# Altium footprint library Inductors.PcbLib: 45 footprints (part 1 of 3)
Each footprint in its own frame and in the unit in brackets; x right, y up, seen from the top. Pads: shape width x height; smd on the part's side, far side on the other; paste and mask are expansions set on the pad; w line width, h text height; cw(c..) or ccw(c..) is an arc to the next point about the centre after c.
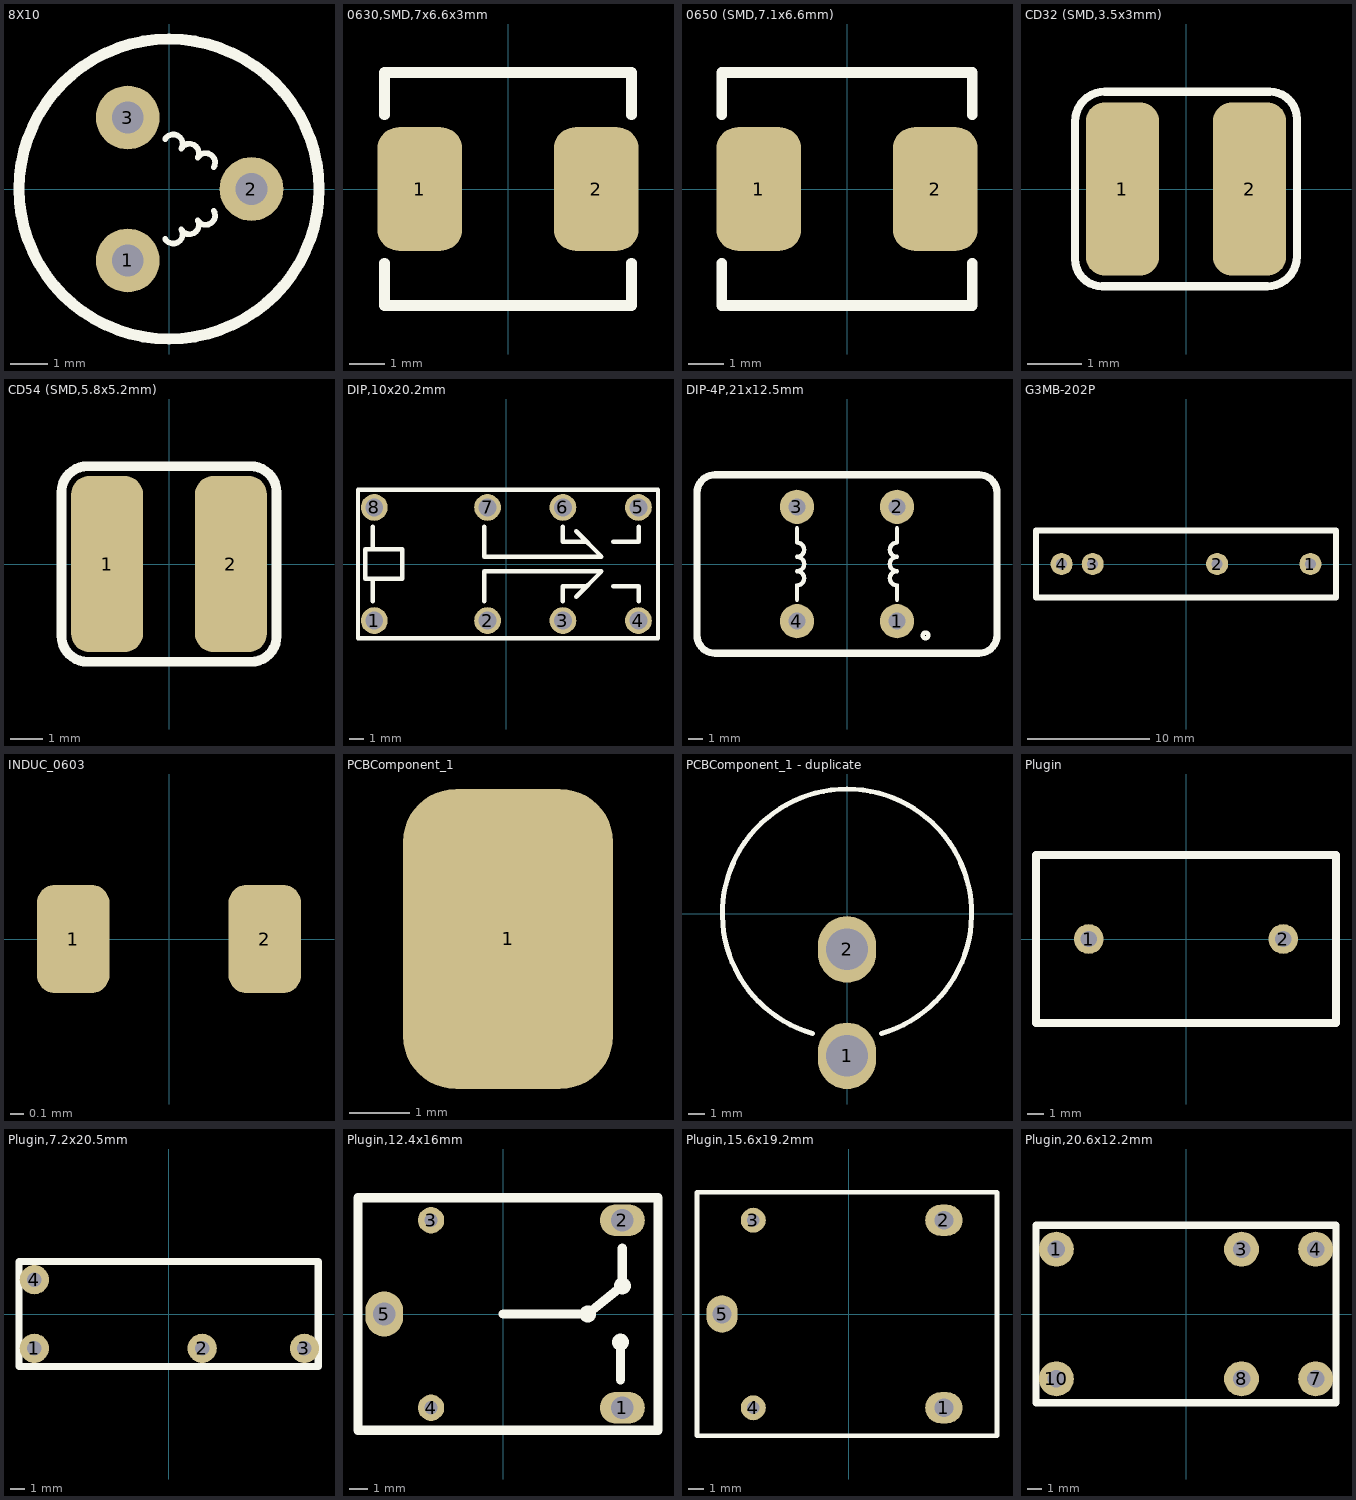
[diagram p0: the footprints below, top view; thin cyan lines are the x and y axes]

## 8X10 [mm]
pads (3):
  round 1.7 hole 0.85 mask+0.2: 1(-1.1,-1.905) 2(2.2,0) 3(-1.1,1.905)
Top Overlay:
  circle w0.3: c0,0 r4
  lines w0.15: -0.104,-1.33 ccw(c0.112,-1.205) 0.329,-1.08 ccw(c0.545,-0.955) 0.762,-0.83 ccw(c0.978,-0.705) 1.195,-0.58 ; -0.104,1.33 cw(c0.112,1.205) 0.329,1.08 cw(c0.546,0.955) 0.762,0.83 cw(c0.979,0.705) 1.195,0.58

## 0630,SMD,7x6.6x3mm [mm]
pads (2):
  rrect50% 2.4x3.5 smd: 1(-2.5,0) 2(2.5,0)
Top Overlay:
  lines w0.3: -3.5,-2.1 -3.5,-3.3 3.5,-3.3 3.5,-2.1 ; -3.5,2.1 -3.5,3.3 3.5,3.3 3.5,2.1
3D body "Inductor_SMD_AMPLF_0630.STEP": height 3.01, standoff 0, extent -3.65,-3.35 3.65,3.35

## 0650 (SMD,7.1x6.6mm) [mm]
pads (2):
  rrect50% 2.4x3.5 smd: 1(-2.5,0) 2(2.5,0)
Top Overlay:
  lines w0.3: -3.55,-2.1 -3.55,-3.3 3.55,-3.3 3.55,-2.1 ; -3.55,2.1 -3.55,3.3 3.55,3.3 3.55,2.1
3D body "Inductor_SMD_AMPLF_0650.STEP": height 5.01, standoff 0, extent -3.65,-3.35 3.65,3.35

## CD32 (SMD,3.5x3mm) [mm]
pads (2):
  rrect50% 1.35x3.2 smd: 1(-1.175,0) 2(1.175,0)
Top Overlay:
  lines w0.15: -2.05,-1.3 ccw(c-1.55,-1.3) -1.55,-1.8 0.55,-1.8 1.5,-1.8 ccw(c1.5,-1.25) 2.05,-1.25 2.05,1.3 ccw(c1.55,1.3) 1.55,1.8 -1.5,1.8 ccw(c-1.5,1.25) -2.05,1.25 -2.05,-1.3
3D body "Inductor_CD32.STEP": height 2.3, standoff -0.17, extent -1.704,-1.644 1.704,1.644

## CD54 (SMD,5.8x5.2mm) [mm]
pads (2):
  rrect50% 2.2x5.4 smd: 1(-1.9,0) 2(1.9,0)
Top Overlay:
  lines w0.3: -3.3,-2.2 ccw(c-2.5,-2.2) -2.5,-3 2.517,-3 ccw(c2.517,-2.217) 3.3,-2.217 3.3,2.2 ccw(c2.5,2.2) 2.5,3 -2.5,3 ccw(c-2.5,2.2) -3.3,2.2 -3.3,-2.2
3D body "SMD_Inductor_CD54.step": height 4.49, standoff -0.01, extent -2.9,-2.6 2.9,2.6

## DIP,10x20.2mm [mm]
pads (8):
  round 1.8 hole 1.2: 1(-8.89,-3.81) 2(-1.27,-3.81) 3(3.81,-3.81) 4(8.89,-3.81) 5(8.89,3.81) 6(3.81,3.81) 7(-1.27,3.81) 8(-8.89,3.81)
Top Overlay:
  lines w0.3: -9,-2.5 -9,-1 ; -9,1 -9,2.5 ; -1.5,-2.5 -1.5,-0.5 6.401,-0.5 ; -1.5,2.5 -1.5,0.5 6.4,0.5 ; 3.8,-2.5 3.8,-1.5 5.4,-1.5 ; 3.8,2.5 3.8,1.5 5.4,1.5 5.55,1.35 ; 4.7,-2.2 6.4,-0.5 ; 4.7,2.2 6.4,0.5 ; 7.2,-1.5 8.9,-1.5 8.9,-2.5 ; 7.2,1.5 8.9,1.5 8.9,2.5 ; 6.4,0.5 6.4,0.5 ; -9.99,-5 -9.99,5 10.21,5 10.21,-5 -9.99,-5 ; -9.5,-1 -7,-1 -7,1 -9.5,1 -9.5,-1
3D body "Ultra-Miniature_Relay_HJR_Series.step": height 12.05, standoff -3.4, extent -10,-5 10,5

## DIP-4P,21x12.5mm [mm]
pads (4):
  round 2.4 hole 1.2 mask+0.15: 1(3.5,-4) 2(3.5,4) 3(-3.5,4) 4(-3.5,-4)
Top Overlay:
  circle w0.3: c5.5,-5 r0.2
  lines w0.3: -3.5,-2.5 -3.5,-1.5 ; -3.5,2.5 -3.5,1.5 ; 3.5,-2.5 3.5,-1.5 ; 3.5,2.5 3.5,1.5 ; -3.5,-1.5 ccw(c-3.5,-1.5) -3.5,-1.5 ; -3.5,-1.5 ccw(c-3.5,-1) -3.5,-0.5 ccw(c-3.5,0) -3.5,0.5 ccw(c-3.5,1) -3.5,1.5 ; -3.5,1.5 ccw(c-3.5,1.5) -3.5,1.5 ; 3.5,-1.5 cw(c3.5,-1) 3.5,-0.5 cw(c3.5,0) 3.5,0.5 cw(c3.5,1) 3.5,1.5 ; 3.5,-1.5 ccw(c3.5,-1.5) 3.5,-1.5 ; 3.5,1.5 ccw(c3.5,1.5) 3.5,1.5
  lines w0.5: -10.5,-3 -10.5,4 -10.5,4.98 cw(c-9.23,4.98) -9.23,6.25 -8.25,6.25 8.75,6.25 9.23,6.25 cw(c9.23,4.98) 10.5,4.98 10.5,4 ; -10.5,-2.5 -10.5,-4.98 ccw(c-9.23,-4.98) -9.23,-6.25 -7.25,-6.25 7.25,-6.25 9.23,-6.25 ccw(c9.23,-4.98) 10.5,-4.98 10.5,-3 10.5,4.5

## G3MB-202P [mm]
pads (4):
  round 1.8 hole 0.9: 1(10.16,0) 2(2.54,0) 3(-7.62,0) 4(-10.16,0)
Top Overlay:
  lines w0.5: -12.25,-2.75 -12.25,2.75 12.25,2.75 12.25,-2.75 -12.25,-2.75
3D body "Relay - G3MB-202P.stp": height 20.24, standoff -3.82, extent -12.027,-2.53 12.027,2.55

## INDUC_0603 [mm]
pads (2):
  rrect50% 0.55x0.82 smd: 1(-0.725,0) 2(0.725,0)
3D body "C0603.stp": height 0.8, standoff 0, extent -0.8,-0.4 0.8,0.4

## PCBComponent_1 [mm]
pads (1):
  rrect50% 3.5x5 smd: 1(-4.5,-9.375)

## PCBComponent_1 - duplicate [mm]
pads (2):
  oval 3.5x4 hole 2.5: 1(0,-8.55) 2(0,-2.15)
Top Overlay:
  lines w0.3: -2.067,-7.209 cw(c0,0) 2.067,-7.209

## Plugin [mm]
pads (2):
  round 1.8 hole 1 mask+0.2: 1(-5.9,0) 2(5.9,0)
Top Overlay:
  lines w0.5: -9.1,-5.1 -9.1,5.1 9.1,5.1 9.1,-5.1 -9.1,-5.1
3D body "ZMCT103C.stp": height 19, standoff -3.9, extent -9,-5.1 9,4.9

## Plugin,7.2x20.5mm [mm]
pads (4):
  round 2 hole 1: 1(-9.2,-2.35) 2(2.3,-2.35) 3(9.3,-2.35) 4(-9.2,2.35)
Top Overlay:
  lines w0.5: -10.25,-3.6 -10.25,3.6 10.25,3.6 10.25,-3.6 -10.25,-3.6

## Plugin,12.4x16mm [mm]
pads (5):
  oval 2.4x1.7 hole 1.2 mask+0.2: 1(6.35,-5) 2(6.35,5)
  round 1.4 hole 0.7 mask+0.15: 3(-3.85,5) 4(-3.85,-5)
  oval 2x2.4 hole 1.2 mask+0.2: 5(-6.35,0)
Top Overlay:
  circle w0.5: c6.35,1.5 r0.2
  circle w0.5: c6.25,-1.5 r0.2
  circle w0.5: c4.5,0 r0.2
  lines w0.5: 0,0 4.5,0 6.35,1.5 6.35,3.5 ; 6.25,-3.5 6.25,-1.5 ; -7.75,-6.2 8.25,-6.2 8.25,6.2 -7.75,6.2 -7.75,-6.2
3D body "SRA-12VDC-CL.stp": height 14.94, standoff -3.61, extent -7.485,-5.994 8.085,5.994

## Plugin,15.6x19.2mm [mm]
pads (5):
  oval 2.4x2 hole 1.2: 1(6.1,-6) 2(6.1,6)
  round 1.6 hole 0.8: 3(-6.1,6) 4(-6.1,-6)
  oval 2x2.4 hole 1.2: 5(-8.1,0)
Top Overlay:
  lines w0.3: -9.7,-7.8 -9.7,7.8 9.5,7.8 9.5,-7.8 -9.7,-7.8
3D body "SPDT-SRD-05VDC-SL-C.step": height 15.6, standoff -3, extent -9.5,-7.7 9.5,7.7

## Plugin,20.6x12.2mm [mm]
pads (6):
  round 2.4 hole 1.2 mask+0.3: 1(-8.89,4.445) 3(3.81,4.445) 4(8.89,4.445) 7(8.89,-4.445) 8(3.81,-4.445) 10(-8.89,-4.445)
Top Overlay:
  lines w0.5: -10.287,-6.096 10.287,-6.096 10.287,6.096 -10.287,6.096 -10.287,-6.096
3D body "P0584NL.stp": height 19.11, standoff -3.3, extent -10.285,-6.095 10.285,6.095